# Altium footprint library aiskylab-14Connectors-17HeadersAndWireHousing.PcbLib: 23 footprints (part 2 of 2)
Each footprint in its own frame and in the unit in brackets; x right, y up, seen from the top. Pads: shape width x height; smd on the part's side, far side on the other; paste and mask are expansions set on the pad; w line width, h text height; cw(c..) or ccw(c..) is an arc to the next point about the centre after c.
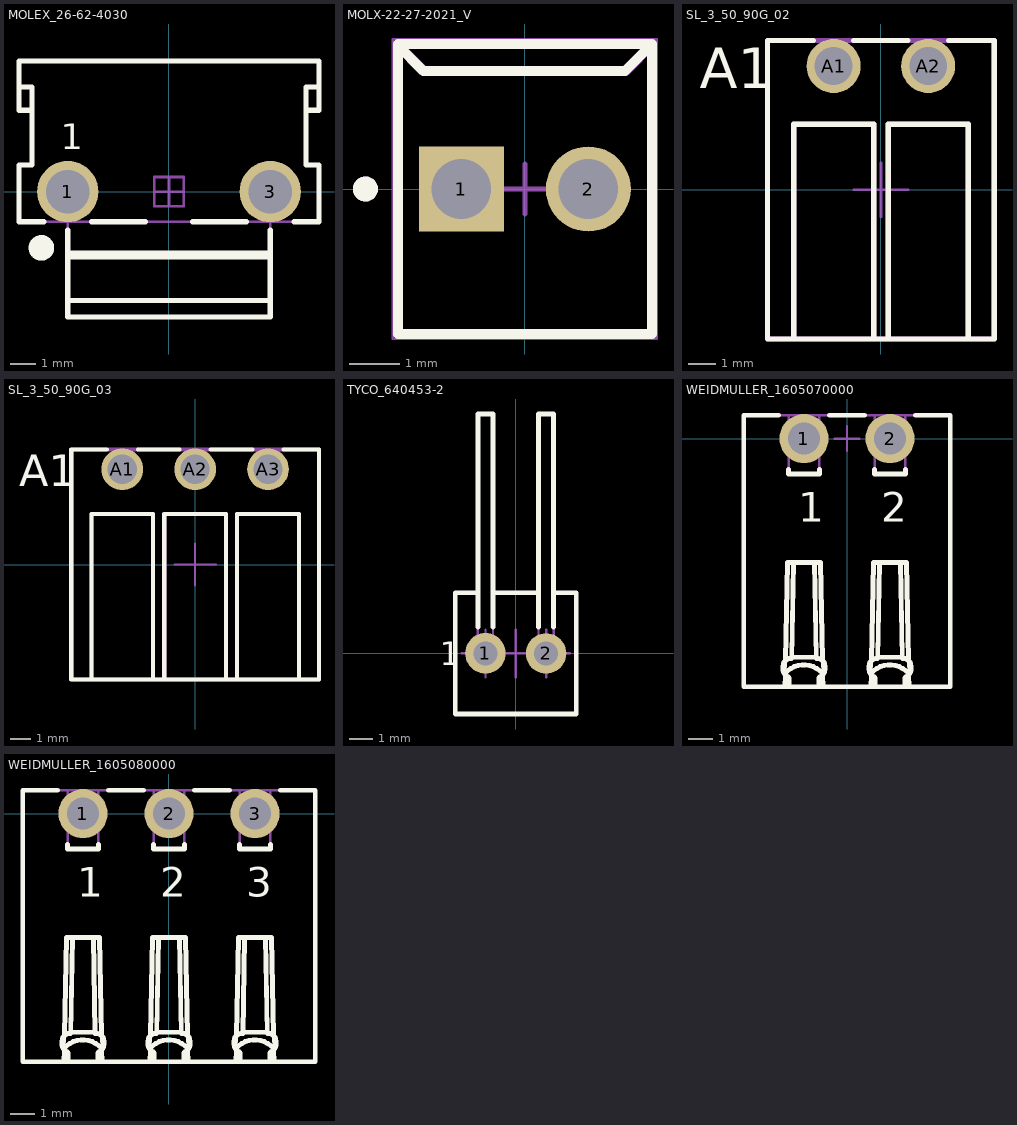
[diagram p1: the footprints below, top view; thin cyan lines are the x and y axes]

## MOLEX_26-62-4030 [mm] "3.96mm (.156\") Pitch KK?Solid Header, Vertical, Friction Lock, 3 Circuits Without Contact Number 2, Tin (Sn) Plating"
height 14.73
pads (2):
  round 2.4 hole 1.7: 1(-3.96,0) 3(3.96,0)
Top Overlay:
  circle w0.5: c-4.99,-2.2 r0.25
  lines w0.2: -5.864,4.087 -5.356,4.087 -5.356,1.041 -5.864,1.041 -5.864,-1.18 -4.886,-1.18 ; -5.356,3.18 -5.864,3.18 -5.864,5.102 5.864,5.102 5.864,3.18 5.356,3.18 ; -3.96,-4.265 3.96,-4.265 ; -3.96,-2.546 3.96,-2.546 ; -3.96,-2.412 3.96,-2.412 ; -3.96,-1.5 -3.96,-4.899 3.96,-4.899 3.96,-1.5 ; -3.034,-1.18 -0.926,-1.18 ; 0.926,-1.18 3.034,-1.18 ; 4.886,-1.18 5.864,-1.18 5.864,1.041 5.356,1.041 5.356,4.087 5.864,4.087
  text "1" at -4.228,1.65 h1
Top Designator:
  text ".Designator" at -7.618,-0.406 h1.52
Top Assembly:
  lines w0.1: -5.864,4.087 -5.356,4.087 -5.356,1.041 -5.864,1.041 -5.864,-1.18 5.864,-1.18 5.864,1.041 5.356,1.041 5.356,4.087 5.864,4.087 ; -5.356,3.18 -5.864,3.18 -5.864,5.102 5.864,5.102 5.864,3.18 5.356,3.18 ; -3.96,-4.265 3.96,-4.265 ; -3.96,-2.546 3.96,-2.546 ; -3.96,-2.412 3.96,-2.412 ; -3.96,-1.18 -3.96,-4.899 3.96,-4.899 3.96,-1.18 ; -4.531,-0.571 -4.531,0.571 -3.389,0.571 -3.389,-0.571 -4.531,-0.571 ; -0.571,-0.571 -0.571,0.571 0.571,0.571 0.571,-0.571 -0.571,-0.571 ; 3.389,-0.571 3.389,0.571 4.531,0.571 4.531,-0.571 3.389,-0.571
  text "1" at -4.228,1.65 h1
Top Component Center:
  lines w0.1: -4.46,0 -3.96,0 ; -3.96,-0.5 -3.96,0 ; -3.96,0.5 -3.96,0 ; -3.46,0 -3.96,0 ; -0.5,0 0,0 ; 0,-0.5 0,0 ; 0,0.5 0,0 ; 0.5,0 0,0 ; 3.46,0 3.96,0 ; 3.96,-0.5 3.96,0 ; 3.96,0.5 3.96,0 ; 4.46,0 3.96,0
3D body "MOLEX_26-62-4030.stp": height 14.22, standoff -4.06, extent -5.867,-4.902 5.868,5.106

## MOLX-22-27-2021_V [mm] "Header, 2-Leads, Body 5.8x5.08mm"
height 11.7
pads (2):
  rect 1.7x1.7 hole 1.19: 1(-1.27,0)
  round 1.7 hole 1.19: 2(1.27,0)
Top Overlay:
  circle w0.25: c-3.19,0 r0.125
  lines w0.2: -2.54,2.9 -2.54,-2.9 2.54,-2.9 2.54,2.9 ; -2.54,2.9 2.54,2.9 ; -2.54,2.9 -2.54,2.87 -2.032,2.362 2.002,2.362 2.54,2.9
Top Designator:
  text ".Designator" at -8.005,-0.508 h1.52
Top Assembly:
  circle w0.25: c-3.19,0 r0.125
  lines w0.2: -2.525,2.87 -2.017,2.362 2.017,2.362 2.555,2.9 ; -2.54,-2.9 -2.54,2.9 2.54,2.9 2.54,-2.9 -2.54,-2.9
Top Component Center:
  lines w0.1: -0.5,0 0.5,0 ; 0,-0.5 0,0.5
Top Component Outline:
  lines w0.05: -2.64,-3 2.64,-3 2.64,3 -2.64,3 -2.64,-3
Top 3D Body:
  lines w0.1: -2.54,-2.9 2.54,-2.9 2.54,2.9 -2.54,2.9 -2.54,-2.9
3D body "022272021.stp": height 11.72, standoff -3.54, extent -2.54,-2.9 2.54,2.9

## SL_3_50_90G_02 [mm] "OMNIMATE Signal - Serie BL/SL 3.50  SL 3.50/02/90G 3.2"
height 7.5
pads (2):
  round 2 hole 1.4: A1(-1.75,4.58) A2(1.75,4.58)
Top Overlay:
  lines w0.2: -3.231,-5.525 -3.231,2.425 -0.269,2.425 -0.269,-5.525 ; -2.5,5.525 -4.2,5.525 -4.2,-5.525 4.2,-5.525 4.2,5.525 2.5,5.525 ; -1,5.525 1,5.525 ; 0.269,-5.525 0.269,2.425 3.231,2.425 3.231,-5.525
  text "A1" at -6.712,3.762 h1.5
Top Designator:
  text ".Designator" at -8.924,-0.48 h1.52
Top Assembly:
  lines w0.2: -3.231,-5.525 -3.231,2.425 -0.269,2.425 -0.269,-5.525 ; -2.5,5.525 -4.2,5.525 -4.2,-5.525 4.2,-5.525 4.2,5.525 2.5,5.525 ; -1,5.525 1,5.525 ; 0.269,-5.525 0.269,2.425 3.231,2.425 3.231,-5.525
  text "A1" at -6.712,3.762 h1.5
Top Component Center:
  lines w0.1: -1,0 1,0 ; 0,-1 0,1
Top Component Outline:
  lines w0.2: -4.2,-5.525 -4.2,5.525 4.2,5.525 4.2,-5.525 -4.2,-5.525
3D body "SL_3.50_02_90G_3.2SN_OR_BX_1605070000.stp": height 7.46, standoff -3.19, extent -4.2,-5.525 4.2,5.525

## SL_3_50_90G_03 [mm] "OMNIMATE Signal - Serie BL/SL 3.50  SL 3.50/03/90G 3.2"
height 7.5
pads (3):
  round 2 hole 1.4: A1(-3.5,4.58) A2(0,4.58) A3(3.5,4.58)
Top Overlay:
  lines w0.2: -4.981,-5.525 -4.981,2.425 -2.019,2.425 -2.019,-5.525 ; -4.25,5.525 -5.95,5.525 -5.95,-5.525 5.95,-5.525 5.95,5.525 4.25,5.525 ; -2.75,5.525 -0.75,5.525 ; -1.481,-5.525 -1.481,2.425 1.481,2.425 1.481,-5.525 ; 0.75,5.525 2.75,5.525 ; 2.019,-5.525 2.019,2.425 4.981,2.425 4.981,-5.525
  text "A1" at -8.462,3.762 h1.5
Top Designator:
  text ".Designator" at -8.924,-0.48 h1.52
Top Assembly:
  lines w0.2: -4.981,-5.525 -4.981,2.425 -2.019,2.425 -2.019,-5.525 ; -4.25,5.525 -5.95,5.525 -5.95,-5.525 5.95,-5.525 5.95,5.525 4.25,5.525 ; -2.75,5.525 -0.75,5.525 ; -1.481,-5.525 -1.481,2.425 1.481,2.425 1.481,-5.525 ; 0.75,5.525 2.75,5.525 ; 2.019,-5.525 2.019,2.425 4.981,2.425 4.981,-5.525
  text "A1" at -8.462,3.762 h1.5
Top Component Center:
  lines w0.1: -1,0 1,0 ; 0,-1 0,1
Top Component Outline:
  lines w0.2: -5.95,-5.525 -5.95,5.525 5.95,5.525 5.95,-5.525 -5.95,-5.525
3D body "SL_3.50_03_90G_3.2SN_OR_BX_1605080000.stp": height 7.46, standoff -3.19, extent -5.95,-5.525 5.95,5.525

## TYCO_640453-2 [mm] "2 Circuits, 2.54mm (.100\") Pitch,Single Row Right Angle Header, Type  MTA-100"
height 4.76
pads (2):
  round 1.7 hole 1: 1(-1.27,0.002) 2(1.27,-0.002)
Top Overlay:
  lines w0.2: -1.587,1.105 -1.587,10.033 -0.953,10.033 -0.953,1.105 ; -1.587,2.54 -2.54,2.54 -2.54,-2.54 2.54,-2.54 2.54,2.54 1.587,2.54 ; -0.953,2.54 0.953,2.54 ; 0.953,1.105 0.953,10.033 1.587,10.033 1.587,1.105
  text "1" at -3.19,-0.503 h1
Top Designator:
  text ".Designator" at -7.968,3.239 h1.52
Top Assembly:
  lines w0.1: -1.587,2.54 -2.54,2.54 -2.54,-2.54 2.54,-2.54 2.54,2.54 1.587,2.54 ; -0.953,2.54 0.953,2.54 ; -1.587,-0.318 -1.587,10.033 -0.953,10.033 -0.953,-0.318 -1.587,-0.318 ; 0.953,-0.312 0.953,10.033 1.587,10.033 1.587,-0.312 0.953,-0.312
  text "1" at -3.19,-0.503 h1
Top Component Center:
  lines w0.1: -2.27,0 -1.27,0 ; -1.27,-1 -1.27,0 ; -1.27,1 -1.27,0 ; -1,0 0,0 ; -0.27,0 -1.27,0 ; 0,-1 0,0 ; 0,1 0,0 ; 0.27,0 1.27,0 ; 1,0 0,0 ; 1.27,-1 1.27,0 ; 1.27,1 1.27,0 ; 2.27,0 1.27,0
3D body "TYCO_640453-2.stp": height 4.43, standoff -3.56, extent -2.54,-2.54 2.54,10.033

## WEIDMULLER_1605070000 [mm] "10A 300 V, Pitch 3.5mm, 2 Positions PCB Right Angle Header, BL/SL 3.50 Serie"
height 7.5
pads (2):
  round 2 hole 1.3: 1(-1.75,0) 2(1.75,0)
Top Overlay:
  lines w0.2: -2.778,0.95 -4.2,0.95 -4.2,-10.1 4.2,-10.1 4.2,0.95 2.778,0.95 ; -2.559,-9.551 -2.55,-9.084 ; -2.535,-9.572 cw(c-1.758,-10.206) -0.982,-9.572 ; -2.518,-10.1 -2.508,-9.616 ; -2.496,-9.023 -2.416,-5.05 -1.084,-5.05 -1.004,-9.023 ; -2.375,-1.253 -2.375,-1.45 -1.125,-1.45 -1.125,-1.253 ; -2.36,-10.1 -2.36,-9.783 ccw(c-2.485,-9.783) -2.431,-9.67 cw(c-2.3,-9.4) -2.6,-9.4 -2.6,-9.25 cw(c-2.3,-9.25) -2.3,-8.95 -2.247,-8.95 -2.179,-5.05 ; -2.25,-8.9 -1.254,-8.9 ; -1.321,-5.05 -1.253,-8.95 -1.2,-8.95 cw(c-1.2,-9.25) -0.9,-9.25 -0.9,-9.4 cw(c-1.2,-9.4) -1.069,-9.67 ccw(c-1.015,-9.783) -1.14,-9.783 -1.14,-10.1 ; -0.992,-9.616 -0.983,-10.1 ; -0.95,-9.084 -0.941,-9.551 ; -0.722,0.95 0.722,0.95 ; 0.941,-9.551 0.95,-9.084 ; 0.965,-9.572 cw(c1.742,-10.206) 2.518,-9.572 ; 0.983,-10.1 0.992,-9.616 ; 1.004,-9.023 1.084,-5.05 2.416,-5.05 2.496,-9.023 ; 1.125,-1.253 1.125,-1.45 2.375,-1.45 2.375,-1.253 ; 1.14,-10.1 1.14,-9.783 ccw(c1.015,-9.783) 1.069,-9.67 cw(c1.2,-9.4) 0.9,-9.4 0.9,-9.25 cw(c1.2,-9.25) 1.2,-8.95 1.253,-8.95 1.321,-5.05 ; 1.25,-8.9 2.246,-8.9 ; 2.179,-5.05 2.247,-8.95 2.3,-8.95 cw(c2.3,-9.25) 2.6,-9.25 2.6,-9.4 cw(c2.3,-9.4) 2.431,-9.67 ccw(c2.485,-9.783) 2.36,-9.783 2.36,-10.1 ; 2.508,-9.616 2.518,-10.1 ; 2.55,-9.084 2.559,-9.551
  text "2" at 1.385,-3.375 h1.2
  text "1" at -1.99,-3.375 h1.2
Top Designator:
  text ".Designator" at -7.618,-5.057 h1.52
Top Assembly:
  lines w0.1: -2.559,-9.551 -2.55,-9.084 ; -2.535,-9.572 cw(c-1.758,-10.206) -0.982,-9.572 ; -2.518,-10.1 -2.508,-9.616 ; -2.496,-9.023 -2.416,-5.05 -1.084,-5.05 -1.004,-9.023 ; -2.375,0.95 -2.375,-1.45 -1.125,-1.45 -1.125,0.95 ; -2.36,-10.1 -2.36,-9.783 ccw(c-2.485,-9.783) -2.431,-9.67 cw(c-2.3,-9.4) -2.6,-9.4 -2.6,-9.25 cw(c-2.3,-9.25) -2.3,-8.95 -2.247,-8.95 -2.179,-5.05 ; -2.25,-8.9 -1.254,-8.9 ; -1.321,-5.05 -1.253,-8.95 -1.2,-8.95 cw(c-1.2,-9.25) -0.9,-9.25 -0.9,-9.4 cw(c-1.2,-9.4) -1.069,-9.67 ccw(c-1.015,-9.783) -1.14,-9.783 -1.14,-10.1 ; -0.992,-9.616 -0.983,-10.1 ; -0.95,-9.084 -0.941,-9.551 ; 0.941,-9.551 0.95,-9.084 ; 0.965,-9.572 cw(c1.742,-10.206) 2.518,-9.572 ; 0.983,-10.1 0.992,-9.616 ; 1.004,-9.023 1.084,-5.05 2.416,-5.05 2.496,-9.023 ; 1.125,0.95 1.125,-1.45 2.375,-1.45 2.375,0.95 ; 1.14,-10.1 1.14,-9.783 ccw(c1.015,-9.783) 1.069,-9.67 cw(c1.2,-9.4) 0.9,-9.4 0.9,-9.25 cw(c1.2,-9.25) 1.2,-8.95 1.253,-8.95 1.321,-5.05 ; 1.25,-8.9 2.246,-8.9 ; 2.179,-5.05 2.247,-8.95 2.3,-8.95 cw(c2.3,-9.25) 2.6,-9.25 2.6,-9.4 cw(c2.3,-9.4) 2.431,-9.67 ccw(c2.485,-9.783) 2.36,-9.783 2.36,-10.1 ; 2.508,-9.616 2.518,-10.1 ; 2.55,-9.084 2.559,-9.551 ; -4.2,-10.1 4.2,-10.1 4.2,0.95 -4.2,0.95 -4.2,-10.1
  text "2" at 1.385,-3.375 h1.2
  text "1" at -1.99,-3.375 h1.2
Top Component Center:
  lines w0.1: -2.25,0 -1.75,0 ; -1.75,-0.5 -1.75,0 ; -1.75,0.5 -1.75,0 ; -1.25,0 -1.75,0 ; -0.5,0 0,0 ; 0,-0.5 0,0 ; 0,0.5 0,0 ; 0.5,0 0,0 ; 1.25,0 1.75,0 ; 1.75,-0.5 1.75,0 ; 1.75,0.5 1.75,0 ; 2.25,0 1.75,0
3D body "WEIDMULLER_1605070000.stp": height 7.45, standoff -3.2, extent -4.2,-10.1 4.2,0.95

## WEIDMULLER_1605080000 [mm] "10A 300 V, Pitch 3.5mm, 3 Positions PCB Right Angle Header, BL/SL 3.50 Serie"
height 7.5
pads (3):
  round 2 hole 1.3: 1(-3.5,0) 2(0,0) 3(3.5,0)
Top Overlay:
  lines w0.2: -4.528,0.95 -5.95,0.95 -5.95,-10.1 5.95,-10.1 5.95,0.95 4.528,0.95 ; -4.309,-9.551 -4.3,-9.084 ; -4.285,-9.572 cw(c-3.508,-10.206) -2.732,-9.572 ; -4.267,-10.1 -4.258,-9.616 ; -4.246,-9.023 -4.166,-5.05 -2.834,-5.05 -2.754,-9.023 ; -4.125,-1.253 -4.125,-1.45 -2.875,-1.45 -2.875,-1.253 ; -4.11,-10.1 -4.11,-9.783 ccw(c-4.235,-9.783) -4.181,-9.67 cw(c-4.05,-9.4) -4.35,-9.4 -4.35,-9.25 cw(c-4.05,-9.25) -4.05,-8.95 -3.997,-8.95 -3.929,-5.05 ; -4,-8.9 -3.004,-8.9 ; -3.071,-5.05 -3.003,-8.95 -2.95,-8.95 cw(c-2.95,-9.25) -2.65,-9.25 -2.65,-9.4 cw(c-2.95,-9.4) -2.819,-9.67 ccw(c-2.765,-9.783) -2.89,-9.783 -2.89,-10.1 ; -2.742,-9.616 -2.732,-10.1 ; -2.7,-9.084 -2.691,-9.551 ; -2.472,0.95 -1.028,0.95 ; -0.809,-9.551 -0.8,-9.084 ; -0.785,-9.572 cw(c-0.008,-10.206) 0.768,-9.572 ; -0.767,-10.1 -0.758,-9.616 ; -0.746,-9.023 -0.666,-5.05 0.666,-5.05 0.746,-9.023 ; -0.625,-1.253 -0.625,-1.45 0.625,-1.45 0.625,-1.253 ; -0.61,-10.1 -0.61,-9.783 ccw(c-0.735,-9.783) -0.681,-9.67 cw(c-0.55,-9.4) -0.85,-9.4 -0.85,-9.25 cw(c-0.55,-9.25) -0.55,-8.95 -0.497,-8.95 -0.429,-5.05 ; -0.5,-8.9 0.496,-8.9 ; 0.429,-5.05 0.497,-8.95 0.55,-8.95 cw(c0.55,-9.25) 0.85,-9.25 0.85,-9.4 cw(c0.55,-9.4) 0.681,-9.67 ccw(c0.735,-9.783) 0.61,-9.783 0.61,-10.1 ; 0.758,-9.616 0.768,-10.1 ; 0.8,-9.084 0.809,-9.551 ; 1.028,0.95 2.472,0.95 ; 2.691,-9.551 2.7,-9.084 ; 2.715,-9.572 cw(c3.492,-10.206) 4.268,-9.572 ; 2.733,-10.1 2.742,-9.616 ; 2.754,-9.023 2.834,-5.05 4.166,-5.05 4.246,-9.023 ; 2.875,-1.253 2.875,-1.45 4.125,-1.45 4.125,-1.253 ; 2.89,-10.1 2.89,-9.783 ccw(c2.765,-9.783) 2.819,-9.67 cw(c2.95,-9.4) 2.65,-9.4 2.65,-9.25 cw(c2.95,-9.25) 2.95,-8.95 3.003,-8.95 3.071,-5.05 ; 3,-8.9 3.996,-8.9 ; 3.929,-5.05 3.997,-8.95 4.05,-8.95 cw(c4.05,-9.25) 4.35,-9.25 4.35,-9.4 cw(c4.05,-9.4) 4.181,-9.67 ccw(c4.235,-9.783) 4.11,-9.783 4.11,-10.1 ; 4.258,-9.616 4.268,-10.1 ; 4.3,-9.084 4.309,-9.551
  text "2" at -0.365,-3.375 h1.2
  text "1" at -3.74,-3.375 h1.2
  text "3" at 3.135,-3.375 h1.2
Top Designator:
  text ".Designator" at -7.617,-5.057 h1.52
Top Assembly:
  lines w0.1: -4.309,-9.551 -4.3,-9.084 ; -4.285,-9.572 cw(c-3.508,-10.206) -2.732,-9.572 ; -4.267,-10.1 -4.258,-9.616 ; -4.246,-9.023 -4.166,-5.05 -2.834,-5.05 -2.754,-9.023 ; -4.125,0.95 -4.125,-1.45 -2.875,-1.45 -2.875,0.95 ; -4.11,-10.1 -4.11,-9.783 ccw(c-4.235,-9.783) -4.181,-9.67 cw(c-4.05,-9.4) -4.35,-9.4 -4.35,-9.25 cw(c-4.05,-9.25) -4.05,-8.95 -3.997,-8.95 -3.929,-5.05 ; -4,-8.9 -3.004,-8.9 ; -3.071,-5.05 -3.003,-8.95 -2.95,-8.95 cw(c-2.95,-9.25) -2.65,-9.25 -2.65,-9.4 cw(c-2.95,-9.4) -2.819,-9.67 ccw(c-2.765,-9.783) -2.89,-9.783 -2.89,-10.1 ; -2.742,-9.616 -2.732,-10.1 ; -2.7,-9.084 -2.691,-9.551 ; -0.809,-9.551 -0.8,-9.084 ; -0.785,-9.572 cw(c-0.008,-10.206) 0.768,-9.572 ; -0.767,-10.1 -0.758,-9.616 ; -0.746,-9.023 -0.666,-5.05 0.666,-5.05 0.746,-9.023 ; -0.625,0.95 -0.625,-1.45 0.625,-1.45 0.625,0.95 ; -0.61,-10.1 -0.61,-9.783 ccw(c-0.735,-9.783) -0.681,-9.67 cw(c-0.55,-9.4) -0.85,-9.4 -0.85,-9.25 cw(c-0.55,-9.25) -0.55,-8.95 -0.497,-8.95 -0.429,-5.05 ; -0.5,-8.9 0.496,-8.9 ; 0.429,-5.05 0.497,-8.95 0.55,-8.95 cw(c0.55,-9.25) 0.85,-9.25 0.85,-9.4 cw(c0.55,-9.4) 0.681,-9.67 ccw(c0.735,-9.783) 0.61,-9.783 0.61,-10.1 ; 0.758,-9.616 0.768,-10.1 ; 0.8,-9.084 0.809,-9.551 ; 2.691,-9.551 2.7,-9.084 ; 2.715,-9.572 cw(c3.492,-10.206) 4.268,-9.572 ; 2.733,-10.1 2.742,-9.616 ; 2.754,-9.023 2.834,-5.05 4.166,-5.05 4.246,-9.023 ; 2.875,0.95 2.875,-1.45 4.125,-1.45 4.125,0.95 ; 2.89,-10.1 2.89,-9.783 ccw(c2.765,-9.783) 2.819,-9.67 cw(c2.95,-9.4) 2.65,-9.4 2.65,-9.25 cw(c2.95,-9.25) 2.95,-8.95 3.003,-8.95 3.071,-5.05 ; 3,-8.9 3.996,-8.9 ; 3.929,-5.05 3.997,-8.95 4.05,-8.95 cw(c4.05,-9.25) 4.35,-9.25 4.35,-9.4 cw(c4.05,-9.4) 4.181,-9.67 ccw(c4.235,-9.783) 4.11,-9.783 4.11,-10.1 ; 4.258,-9.616 4.268,-10.1 ; 4.3,-9.084 4.309,-9.551 ; -5.95,-10.1 5.95,-10.1 5.95,0.95 -5.95,0.95 -5.95,-10.1
  text "2" at -0.365,-3.375 h1.2
  text "3" at 3.135,-3.375 h1.2
  text "1" at -3.74,-3.375 h1.2
Top Component Center:
  lines w0.1: -4,0 -3.5,0 ; -3.5,-0.5 -3.5,0 ; -3.5,0.5 -3.5,0 ; -3,0 -3.5,0 ; -0.5,0 0,0 ; 0,-0.5 0,0 ; 0,0.5 0,0 ; 0.5,0 0,0 ; 3,0 3.5,0 ; 3.5,-0.5 3.5,0 ; 3.5,0.5 3.5,0 ; 4,0 3.5,0
3D body "WEIDMULLER_1605080000.stp": height 7.45, standoff -3.2, extent -5.95,-10.1 5.95,0.95